# Altium schematic symbol library Резонаторы_.SchLib: 6 symbols
Pins are listed as number, name and electrical type; pins without a type are passive.

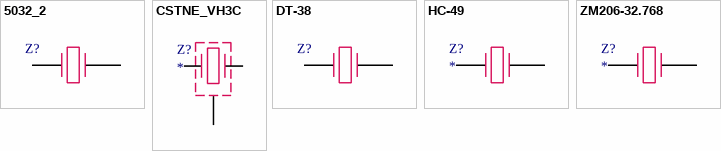
[diagram p0: symbols 5032_2 to ZM206-32.768]

## 5032_2
designator Z?, comment ***  (value not drawn)
Rem: *; Package: *; Value: *; Tolerance: *; Power/Voltage: *; TKE: *; ManufacturerPartNumber: *; Manufacturer: *; Quantity: *; Примечание: *; Price: *
footprint 5032_2
pins: 1, 2

## CSTNE_VH3C
designator Z?
CSTNE_VH3C
footprint CSTNE_VH3C
pins: 1, 2, 3

## DT-38
designator Z?, comment 32.768  (value not drawn)
Rem: *; Package: *; Value: 32.768; Tolerance: *; Power/Voltage: *; TKE: *; ManufacturerPartNumber: *; Manufacturer: *; Quantity: *; Примечание: *
footprint DT_38
pins: 1, 2

## HC-49
designator Z?
footprint HC-49
pins: 1, 2

## ZM206-32.768
designator Z?
ZM206-32.768-12.5pf
footprint ZM206_32K768
pins: 1, 4

## РЫБА_1
designator Z?, comment ***  (value not drawn)
Rem: *; Package: *; Value: *; Tolerance: *; Power/Voltage: *; TKE: *; ManufacturerPartNumber: *; Manufacturer: *; Quantity: *; Примечание: *; Price: *